# Altium integrated library molex.IntLib: 7 symbols
Pins are listed as number, name and electrical type; pins without a type are passive.

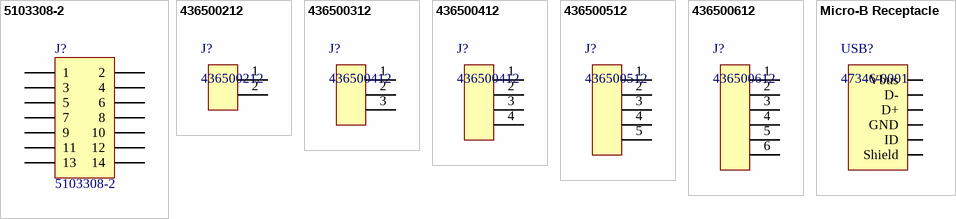
[diagram p0: symbols 5103308-2 to Micro-B Receptacle]

## 5103308-2
designator J?
A/L LOW PRO HDR 14P VERT BLACK; LatestRevisionDate: 17-Jul-2002; LatestRevisionNote: Re-released for DXP Platform.; Publisher: Altium Limited
signal-integrity model Connector
footprint 5103308-2 (Connector; Header; 7x2 Position)
pins: 1, 2, 3, 4, 5, 6, 7, 8, 9, 10, 11, 12, 13, 14

## 436500212
designator J?
Micro-Fit 3.0 Right-Angle Header, 3.00mm Pitch, Single Row, 2 Circuits, with Solder Tab, Tin, Glow-Wire Capable, Black
footprint 436500212 (Micro-Fit 3.0 Right-Angle Header, 3.00mm Pitch, Single Row, 2 Circuits, with Solder Tab, Tin, Glow-Wire Capable, Black)
pins: 1, 2

## 436500312
designator J?, comment 436500412
Micro-Fit 3.0 Right-Angle Header, 3.00mm Pitch, Single Row, 3 Circuits, with Solder Tab, Tin, Glow-Wire Capable, Black
footprint 436500312 (Micro-Fit 3.0 Right-Angle Header, 3.00mm Pitch, Single Row, 3 Circuits, with Solder Tab, Tin, Glow-Wire Capable, Black)
pins: 1, 2, 3

## 436500412
designator J?
Micro-Fit 3.0 Right-Angle Header, 3.00mm Pitch, Single Row, 4 Circuits, with Solder Tab, Tin, Glow-Wire Capable, Black
footprint 436500412 (Micro-Fit 3.0 Right-Angle Header, 3.00mm Pitch, Single Row, 4 Circuits, with Solder Tab, Tin, Glow-Wire Capable, Black)
pins: 1, 2, 3, 4

## 436500512
designator J?
Micro-Fit 3.0 Right-Angle Header, 3.00mm Pitch, Single Row, 5 Circuits, with Solder Tab, Tin, Glow-Wire Capable, Black
footprint 436500512 (Micro-Fit 3.0 Right-Angle Header, 3.00mm Pitch, Single Row, 6 Circuits, with Solder Tab, Tin, Glow-Wire Capable, Black)
pins: 1, 2, 3, 4, 5

## 436500612
designator J?
Micro-Fit 3.0 Right-Angle Header, 3.00mm Pitch, Single Row, 6 Circuits, with Solder Tab, Tin, Glow-Wire Capable, Black
footprint 436500612 (Micro-Fit 3.0 Right-Angle Header, 3.00mm Pitch, Single Row, 6 Circuits, with Solder Tab, Tin, Glow-Wire Capable, Black)
pins: 1, 2, 3, 4, 5, 6

## Micro-B Receptacle
designator USB?, comment 47346-0001
footprint 47346-0001 (USB Micro-B Receptacle)
pins: 0 Shield, 1 Vbus, 2 D-, 3 D+, 4 ID, 5 GND